# EAGLE library part 4050433 (library ampex)
BIAS/PURC CARD
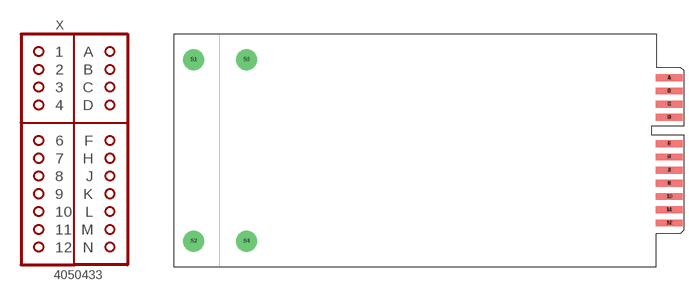
[diagram p0: symbol with the pads of 4050433; footprint 4050433]

Designator prefix X

## 4050433  [4050433]
1  1  pas
2  2  pas
3  3  pas
4  4  pas
6  6  pas
7  7  pas
8  8  pas
9  9  pas
10  10  pas
11  11  pas
12  12  pas
A  A  pas
B  B  pas
C  C  pas
D  D  pas
F  F  pas
H  H  pas
J  J  pas
K  K  pas
L  L  pas
M  M  pas
N  N  pas

## Footprint 4050433 (pad centres in mm)
BIAS/PURC COMBO
smd 8.128 x 2.032 bottom: 1 3.88,21.793; 2 3.88,17.831; 3 3.88,13.868; 4 3.88,9.906; 6 3.88,1.981; 7 3.88,-1.981; 8 3.88,-5.944; 9 3.88,-9.906; 10 3.88,-13.868; 11 3.88,-17.831; 12 3.88,-21.793
smd 8.128 x 2.032: A 3.88,21.793; B 3.88,17.831; C 3.88,13.868; D 3.88,9.906; F 3.88,1.981; H 3.88,-1.981; J 3.88,-5.944; K 3.88,-9.906; L 3.88,-13.868; M 3.88,-17.831; N 3.88,-21.793
drill 3.048 pad 6.35: S1 -138.932,27.241; S2 -138.932,-27.241; S3 -123.082,27.241; S4 -123.082,-27.241